# Altium schematic symbol library RC1206FR-0775RL.SchLib: 1 symbol
Pins are listed as number, name and electrical type; pins without a type are passive.

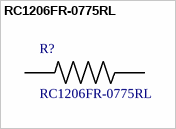
[diagram p0: symbol RC1206FR-0775RL]

## RC1206FR-0775RL
designator R?
/ Res Thick Film 3.2 x 1.6 mm 75 Ohm 1% 0.25W_1/4W_ 100ppm/ C Molded SMD Paper T/R /; MF: Yageo; SnapEDA_Link: https://www.snapeda.com/parts/RC1206FR-0775RL/Yageo/view-part/?ref=snap; Availability: Unavailable; Price: None; MP: RC1206FR-0775RL; Package: 3116 Yageo; Value: *
footprint *RESC3116X65N
pins: 1, 2